# EAGLE library part FPC-41WAY (library pimoroni-fpc)
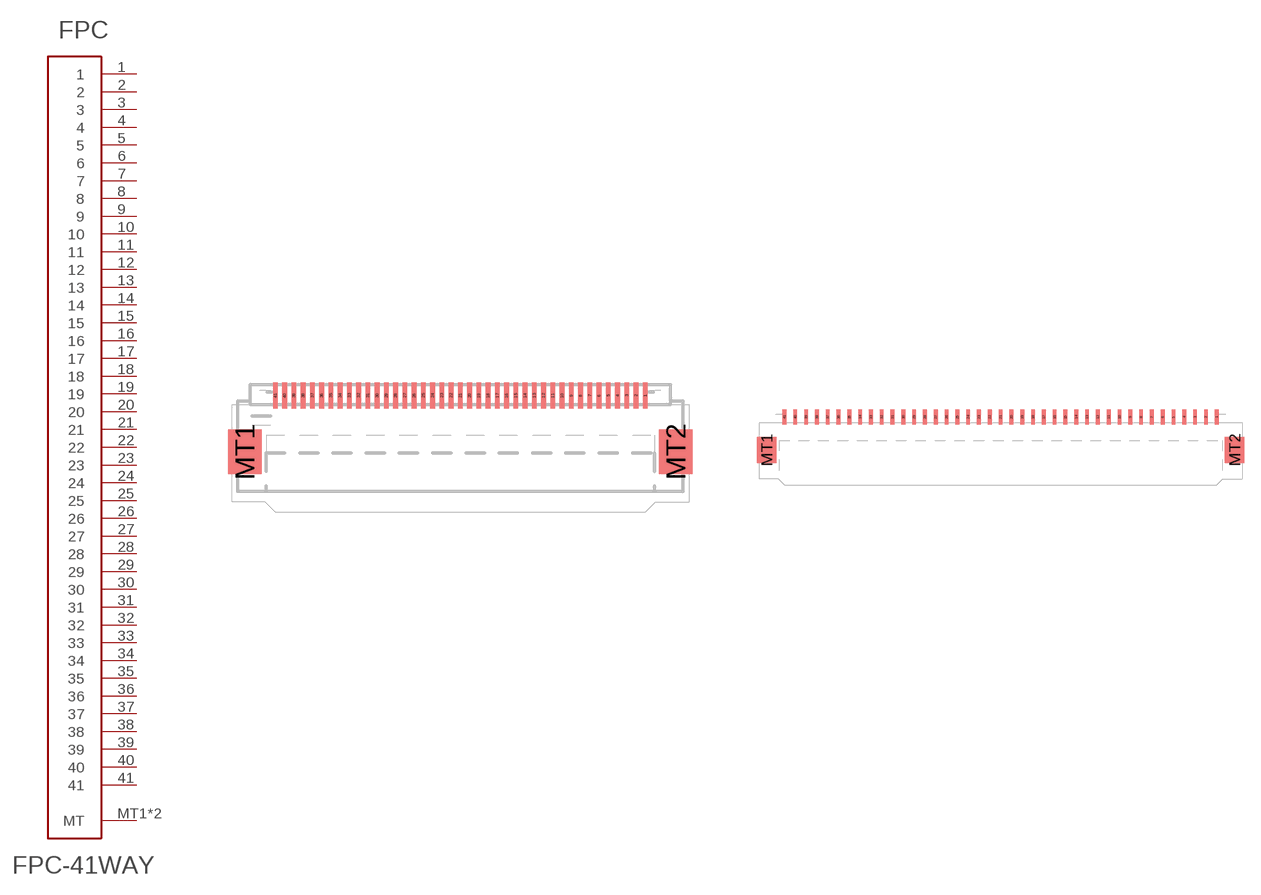
[diagram p36: symbol with the pads of FPC-0.5MM-41WAY; footprints FPC-0.5MM-41WAY, FPC-1.0MM-41WAY]

Designator prefix FPC

## FPC-41WAY0.5  [FPC-0.5MM-41WAY]
1  1
2  2
3  3
4  4
5  5
6  6
7  7
8  8
9  9
10  10
11  11
12  12
13  13
14  14
15  15
16  16
17  17
18  18
19  19
20  20
21  21
22  22
23  23
24  24
25  25
26  26
27  27
28  28
29  29
30  30
31  31
32  32
33  33
34  34
35  35
36  36
37  37
38  38
39  39
40  40
41  41
MT1  MT
MT2  MT

## FPC-41WAY1.0  [FPC-1.0MM-41WAY]
Pads as for FPC-0.5MM-41WAY

## Footprint FPC-0.5MM-41WAY (pad centres in mm)
smd 0.25 x 1.4: 1 10,0.7; 2 9.5,0.7; 3 9,0.7; 4 8.5,0.7; 5 8,0.7; 6 7.5,0.7; 7 7,0.7; 8 6.5,0.7; 9 6,0.7; 10 5.5,0.7; 11 5,0.7; 12 4.5,0.7; 13 4,0.7; 14 3.5,0.7; 15 3,0.7; 16 2.5,0.7; 17 2,0.7; 18 1.5,0.7; 19 1,0.7; 20 0.5,0.7; 21 0,0.7; 22 -0.5,0.7; 23 -1,0.7; 24 -1.5,0.7; 25 -2,0.7; 26 -2.5,0.7; 27 -3,0.7; 28 -3.5,0.7; 29 -4,0.7; 30 -4.5,0.7; 31 -5,0.7; 32 -5.5,0.7; 33 -6,0.7; 34 -6.5,0.7; 35 -7,0.7; 36 -7.5,0.7; 37 -8,0.7; 38 -8.5,0.7; 39 -9,0.7; 40 -9.5,0.7; 41 -10,0.7
smd 1.8 x 2.4: MT1 -11.65,-2.35; MT2 11.65,-2.35

## Footprint FPC-1.0MM-41WAY (pad centres in mm)
smd 0.35 x 1.4: 1 20,0.7; 2 19,0.7; 3 18,0.7; 4 17,0.7; 5 16,0.7; 6 15,0.7; 7 14,0.7; 8 13,0.7; 9 12,0.7; 10 11,0.7; 11 10,0.7; 12 9,0.7; 13 8,0.7; 14 7,0.7; 15 6,0.7; 16 5,0.7; 17 4,0.7; 18 3,0.7; 19 2,0.7; 20 1,0.7; 21 0,0.7; 22 -1,0.7; 23 -2,0.7; 24 -3,0.7; 25 -4,0.7; 26 -5,0.7; 27 -6,0.7; 28 -7,0.7; 29 -8,0.7; 30 -9,0.7; 31 -10,0.7; 32 -11,0.7; 33 -12,0.7; 34 -13,0.7; 35 -14,0.7; 36 -15,0.7; 37 -16,0.7; 38 -17,0.7; 39 -18,0.7; 40 -19,0.7; 41 -20,0.7
smd 1.8 x 2.4: MT1 -21.65,-2.35; MT2 21.65,-2.35